# EAGLE library part 4455-B25 (library con-molex-kk)
RECEPTACAL
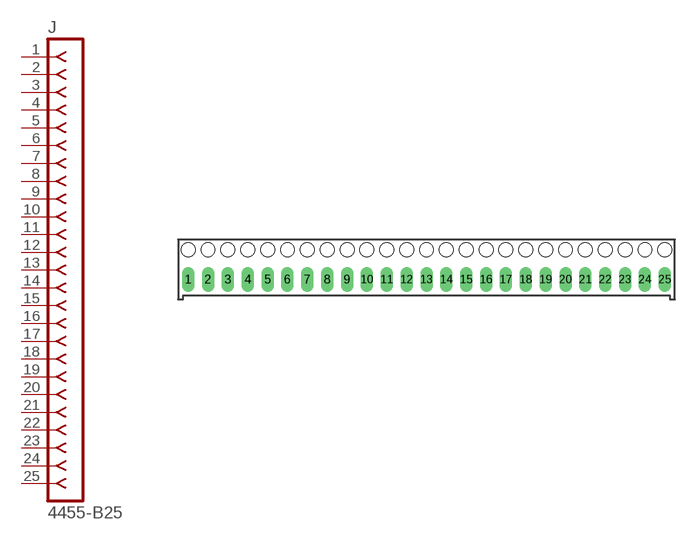
[diagram p2: symbol with the pads of 4455-B25; footprint 4455-B25]

Designator prefix J

## 4455-B25  [4455-B25]
1  1  pas
2  2  pas
3  3  pas
4  4  pas
5  5  pas
6  6  pas
7  7  pas
8  8  pas
9  9  pas
10  10  pas
11  11  pas
12  12  pas
13  13  pas
14  14  pas
15  15  pas
16  16  pas
17  17  pas
18  18  pas
19  19  pas
20  20  pas
21  21  pas
22  22  pas
23  23  pas
24  24  pas
25  25  pas

## Footprint 4455-B25 (pad centres in mm)
RECEPTACAL Vertical, Bottom Entry, 0.1" pitch
drill 1.067 long: 1 -30.48,0; 2 -27.94,0; 3 -25.4,0; 4 -22.86,0; 5 -20.32,0; 6 -17.78,0; 7 -15.24,0; 8 -12.7,0; 9 -10.16,0; 10 -7.62,0; 11 -5.08,0; 12 -2.54,0; 13 0,0; 14 2.54,0; 15 5.08,0; 16 7.62,0; 17 10.16,0; 18 12.7,0; 19 15.24,0; 20 17.78,0; 21 20.32,0; 22 22.86,0; 23 25.4,0; 24 27.94,0; 25 30.48,0
hole 1.778 at -30.48,3.81
hole 1.778 at -27.94,3.81
hole 1.778 at -25.4,3.81
hole 1.778 at -22.86,3.81
hole 1.778 at -20.32,3.81
hole 1.778 at -17.78,3.81
hole 1.778 at -15.24,3.81
hole 1.778 at -12.7,3.81
hole 1.778 at -10.16,3.81
hole 1.778 at -7.62,3.81
hole 1.778 at -5.08,3.81
hole 1.778 at -2.54,3.81
hole 1.778 at 0,3.81
hole 1.778 at 2.54,3.81
hole 1.778 at 5.08,3.81
hole 1.778 at 7.62,3.81
hole 1.778 at 10.16,3.81
hole 1.778 at 12.7,3.81
hole 1.778 at 15.24,3.81
hole 1.778 at 17.78,3.81
hole 1.778 at 20.32,3.81
hole 1.778 at 22.86,3.81
hole 1.778 at 25.4,3.81
hole 1.778 at 27.94,3.81
hole 1.778 at 30.48,3.81